# Altium footprint library con_molex_6_52207-0633.PcbLib: 1 footprints
Each footprint in its own frame and in the unit in brackets; x right, y up, seen from the top. Pads: shape width x height; smd on the part's side, far side on the other; paste and mask are expansions set on the pad; w line width, h text height; cw(c..) or ccw(c..) is an arc to the next point about the centre after c.
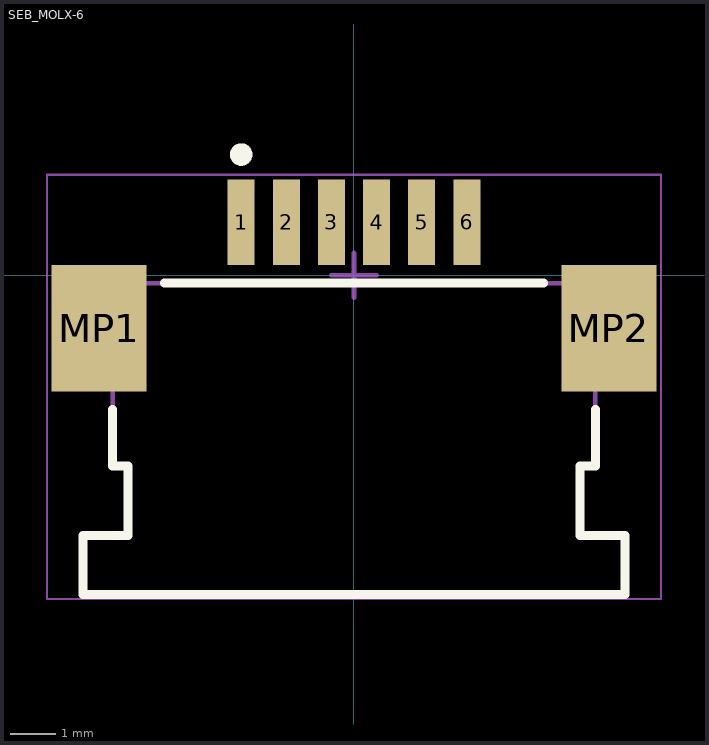
[diagram p0: the footprint, top view; thin cyan lines are the x and y axes]

## SEB_MOLX-6 [mm] "52207-0633"
height 2.712
pads (8):
  rect 0.6x1.9 smd: 1(-2.5,1.175) 2(-1.5,1.175) 3(-0.5,1.175) 4(0.5,1.175) 5(1.5,1.175) 6(2.5,1.175)
  rect 2.1x2.8 smd: MP1(-5.65,-1.175) MP2(5.65,-1.175)
Top Overlay:
  circle w0.25: c-2.5,2.675 r0.125
  lines w0.2: -5.35,-2.975 -5.35,-4.225 -5.013,-4.225 -5.012,-5.765 -6,-5.765 -6,-7.075 6,-7.075 6,-5.765 5.012,-5.765 5.012,-4.225 5.35,-4.225 5.35,-2.975 ; -4.2,-0.175 4.2,-0.175
Mechanical 13:
  lines w0.1: -6.15,-2.175 -5.35,-2.175 -5.35,-4.225 -5.012,-4.225 -5.012,-5.765 -6,-5.765 -6,-7.075 6,-7.075 6,-5.765 5.012,-5.765 5.012,-4.225 5.35,-4.225 5.35,-2.175 6.15,-2.175 6.15,-0.175 -6.15,-0.175 -6.15,-2.175
Mechanical 15:
  lines w0.05: -6.8,-7.175 6.8,-7.175 6.8,2.225 -6.8,2.225 -6.8,-7.175
  lines w0.1: -0.5,0 0.5,0 ; 0,-0.5 0,0.5
3D body "522070633.stp": height 2.71, standoff 0.01, extent -6.15,-7.021 6.15,1.879